# EAGLE library part ZH5_SMT (library 14_JST)
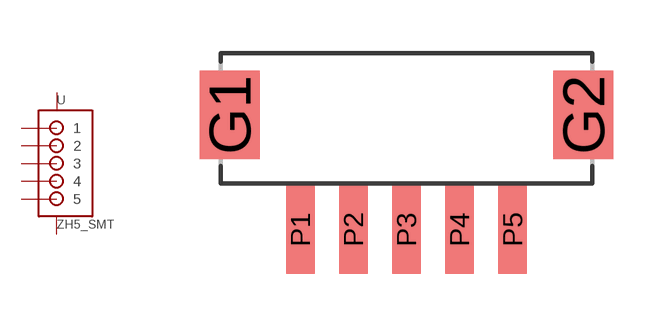
[diagram p1: symbol with the pads of ZH5_SMT; footprint ZH5_SMT]

Designator prefix -

## ZH5_SMT  [ZH5_SMT]
G1  G_L
G2  G_R
P1  1
P2  2
P3  3
P4  4
P5  5

## Footprint ZH5_SMT (pad centres in mm)
smd 1.7 x 2.5: G1 -5,1.95; G2 5,1.95
smd 0.8 x 2.5: P1 -3,-1.3; P2 -1.5,-1.3; P3 0,-1.3; P4 1.5,-1.3; P5 3,-1.3